# Altium schematic symbol library SCH-MCU-WCH-CH591R-TSSOP16.SchLib: 1 symbol
Pins are listed as number, name and electrical type; pins without a type are passive.

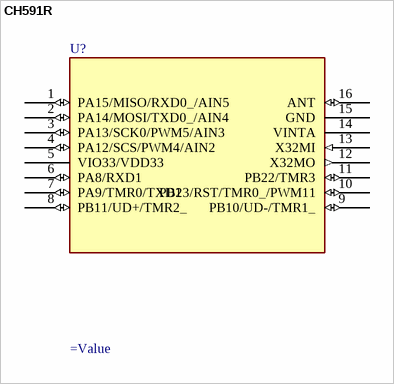
[diagram p0: symbol CH591R]

## CH591R
designator U?
pins: 1 PA15/MISO/RXD0_/AIN5 (io), 2 PA14/MOSI/TXD0_/AIN4 (io), 3 PA13/SCK0/PWM5/AIN3 (io), 4 PA12/SCS/PWM4/AIN2 (io), 5 VIO33/VDD33 (power), 6 PA8/RXD1 (io), 7 PA9/TMR0/TXD1 (io), 8 PB11/UD+/TMR2_ (io), 9 PB10/UD-/TMR1_ (io), 10 PB23/RST/TMR0_/PWM11 (io), 11 PB22/TMR3 (io), 12 X32MO (out), 13 X32MI (in), 14 VINTA (power), 15 GND (power), 16 ANT (io)
2 alternate drawings of the same symbol